# EAGLE library part LM358 (library IC)
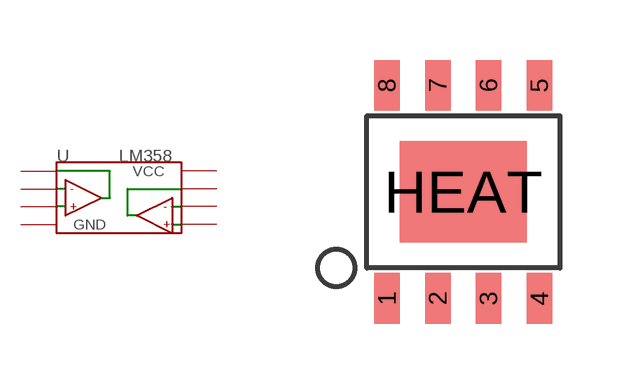
[diagram p59: symbol with the pads of SOP8; footprint SOP8]

Designator prefix U

## LM358-SOP08  [SOP8]
1  1
2  2
3  3
4  GND
5  P$5
6  P$6
7  P$7
8  VCC

## Footprint SOP8 (pad centres in mm)
smd 0.635 x 1.27: 1 -1.905,-2.667; 2 -0.635,-2.667; 3 0.635,-2.667; 4 1.905,-2.667; 5 1.905,2.667; 6 0.635,2.667; 7 -0.635,2.667; 8 -1.905,2.667
smd 3.175 x 2.54: HEAT 0,0